# EAGLE library part LT1510 (library chiptron_petus_cz)
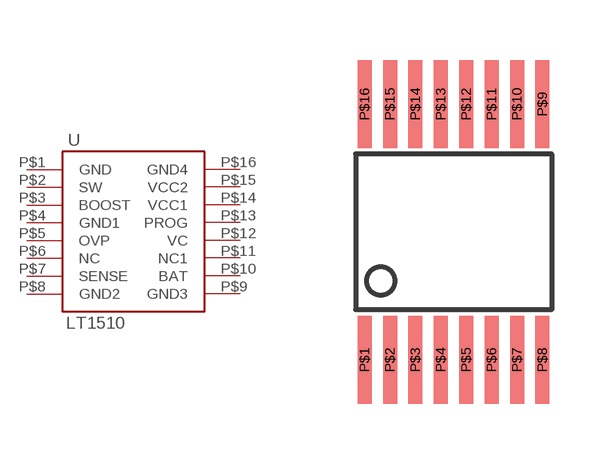
[diagram p6: symbol with the pads of SSOP16; footprint SSOP16]

Designator prefix -

## LT1510  [SSOP16]
P$1  GND
P$2  SW
P$3  BOOST
P$4  GND1
P$5  OVP
P$6  NC
P$7  SENSE
P$8  GND2
P$9  GND3
P$10  BAT
P$11  NC1
P$12  VC
P$13  PROG
P$14  VCC1
P$15  VCC2
P$16  GND4

## Footprint SSOP16 (pad centres in mm)
SSOP16 by http://petus.cz
smd 0.35 x 2.2: P$1 -2.223,-3.2; P$2 -1.587,-3.2; P$3 -0.953,-3.2; P$4 -0.318,-3.2; P$5 0.318,-3.2; P$6 0.953,-3.2; P$7 1.587,-3.2; P$8 2.223,-3.2; P$9 2.223,3.2; P$10 1.587,3.2; P$11 0.953,3.2; P$12 0.318,3.2; P$13 -0.318,3.2; P$14 -0.953,3.2; P$15 -1.587,3.2; P$16 -2.223,3.2